# Altium footprint library PcbLib2.PcbLib: 11 footprints
Each footprint in its own frame and in the unit in brackets; x right, y up, seen from the top. Pads: shape width x height; smd on the part's side, far side on the other; paste and mask are expansions set on the pad; w line width, h text height; cw(c..) or ccw(c..) is an arc to the next point about the centre after c.
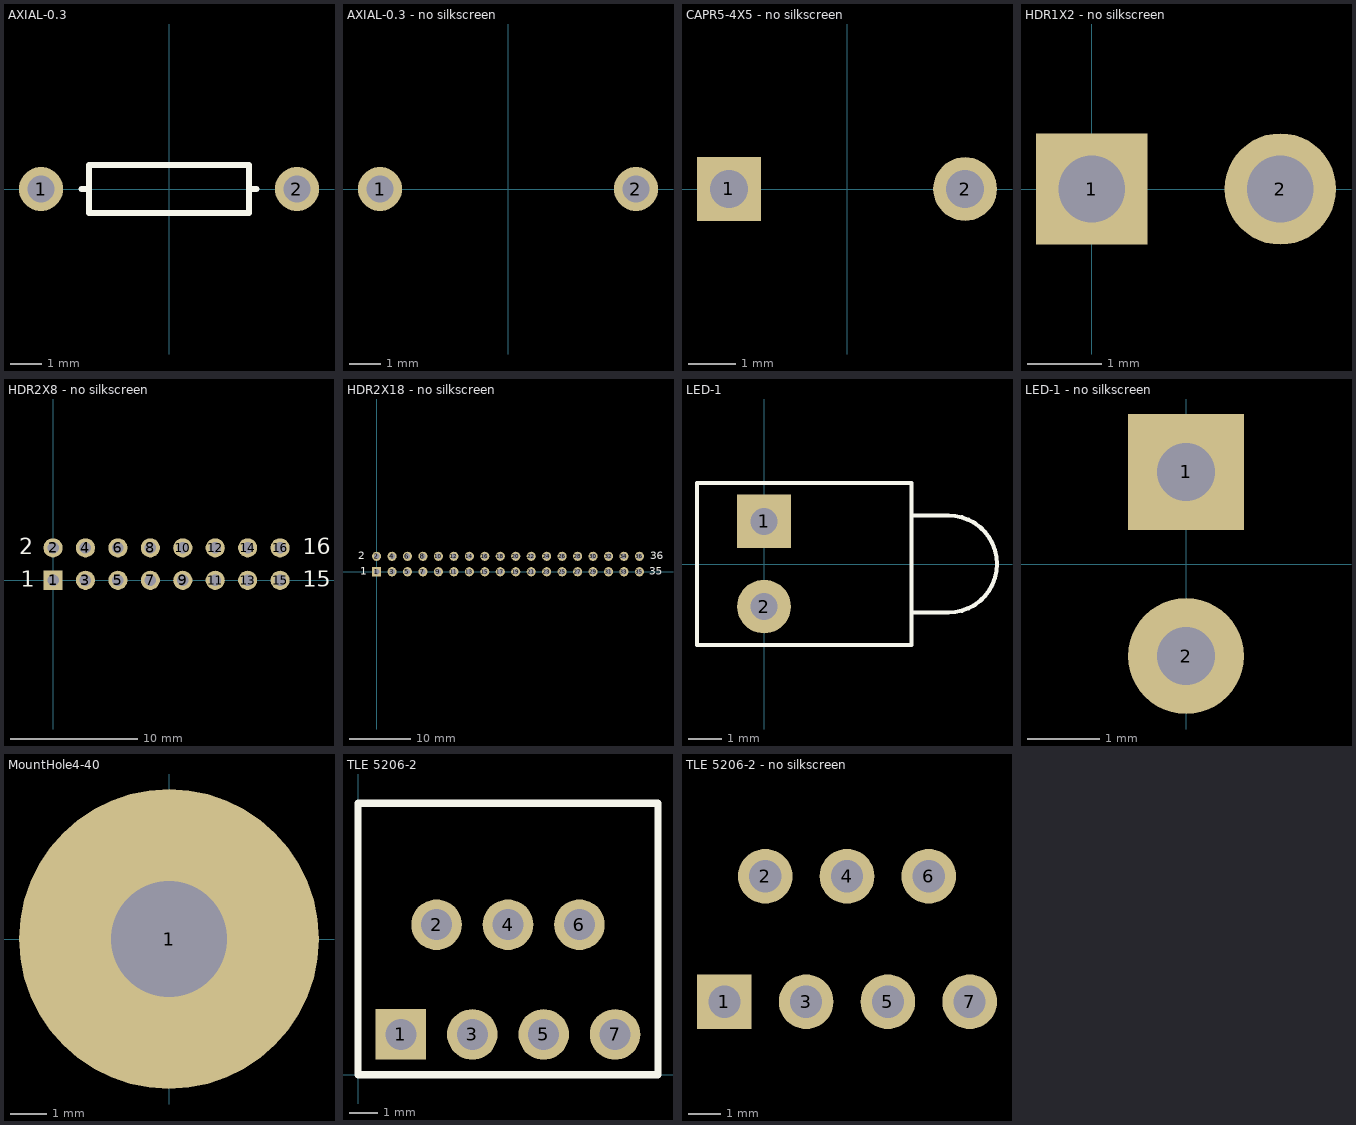
[diagram p0: the footprints below, top view; thin cyan lines are the x and y axes]

## AXIAL-0.3 [mm] "Axial Device, Thru-Hole; 2 Leads; 0.3 in Pin Spacing"
height 1.524
pads (2):
  round 1.4 hole 0.85: 1(-4.064,0) 2(4.064,0)
Top Overlay:
  lines w0.2: -2.769,0 -2.54,0 ; 2.769,0 2.54,0 ; 2.54,0 2.54,0.762 -2.54,0.762 -2.54,-0.762 2.54,-0.762 2.54,0

## AXIAL-0.3 - no silkscreen [mm] "Axial Device, Thru-Hole; 2 Leads; 0.3 in Pin Spacing"
height 1.524
pads (2):
  round 1.4 hole 0.85: 1(-4.064,0) 2(4.064,0)

## CAPR5-4X5 - no silkscreen [mm] "Capacitor; 2 Leads"
height 12
pads (2):
  rect 1.35x1.35 hole 0.8: 1(-2.5,0)
  round 1.35 hole 0.8: 2(2.5,0)

## HDR1X2 - no silkscreen [mm] "Connector; Header; 2 Position"
pads (2):
  rect 1.5x1.5 hole 0.9: 1(0,0)
  round 1.5 hole 0.9: 2(2.54,0)

## HDR2X8 - no silkscreen [mm] "Connector; Header; 8x2 Position"
pads (16):
  rect 1.5x1.5 hole 0.9: 1(0,0)
  round 1.5 hole 0.9: 2(0,2.54) 3(2.54,0) 4(2.54,2.54) 5(5.08,0) 6(5.08,2.54) 7(7.62,0) 8(7.62,2.54) 9(10.16,0) 10(10.16,2.54) 11(12.7,0) 12(12.7,2.54) 13(15.24,0) 14(15.24,2.54) 15(17.78,0) 16(17.78,2.54)
Top Overlay:
  text "16" at 19.558,2.032 h1.27
  text "15" at 19.558,-0.508 h1.27
  text "1" at -2.54,-0.508 h1.27
  text "2" at -2.667,2.032 h1.27

## HDR2X18 - no silkscreen [mm] "Connector; Header; 18x2 Position"
pads (36):
  rect 1.5x1.5 hole 0.9: 1(0,0)
  round 1.5 hole 0.9: 2(0,2.54) 3(2.54,0) 4(2.54,2.54) 5(5.08,0) 6(5.08,2.54) 7(7.62,0) 8(7.62,2.54) 9(10.16,0) 10(10.16,2.54) 11(12.7,0) 12(12.7,2.54) 13(15.24,0) 14(15.24,2.54) 15(17.78,0) 16(17.78,2.54) 17(20.32,0) 18(20.32,2.54) 19(22.86,0) 20(22.86,2.54) 21(25.4,0) 22(25.4,2.54) 23(27.94,0) 24(27.94,2.54) 25(30.48,0) 26(30.48,2.54) 27(33.02,0) 28(33.02,2.54) 29(35.56,0) 30(35.56,2.54) 31(38.1,0) 32(38.1,2.54) 33(40.64,0) 34(40.64,2.54) 35(43.18,0) 36(43.18,2.54)
Top Overlay:
  text "2" at -3.048,2.032 h1.27
  text "1" at -2.667,-0.508 h1.27
  text "35" at 44.831,-0.508 h1.27
  text "36" at 44.958,2.032 h1.27

## LED-1 [mm] "LED; 2 Leads"
pads (2):
  rect 1.6x1.6 hole 0.8: 1(0,1.27)
  round 1.6 hole 0.8: 2(0,-1.27)
Top Overlay:
  lines w0.127: 4.4,-1.45 5.5,-1.45 ccw(c5.5,0) 5.5,1.45 4.4,1.45 ; -2,-2.413 4.4,-2.413 4.4,2.413 -2,2.413 -2,-2.413

## LED-1 - no silkscreen [mm] "LED; 2 Leads"
pads (2):
  rect 1.6x1.6 hole 0.8: 1(0,1.27)
  round 1.6 hole 0.8: 2(0,-1.27)

## MountHole4-40 [mm]
pads (1):
  round 8.3 / inner round 3.7 / far side round 8.3 hole 3.2: 1(0,0)

## TLE 5206-2 [mm] "H-bridge bent legs"
pads (7):
  rect 1.8x1.8 hole 1.1: 1(1.524,1.434)
  round 1.8 hole 1.1: 2(2.794,5.334) 3(4.064,1.434) 4(5.334,5.334) 5(6.604,1.434) 6(7.874,5.334) 7(9.144,1.434)
Top Overlay:
  lines w0.254: 0,0 10.668,0 10.668,9.652 0,9.652 0,0

## TLE 5206-2 - no silkscreen [mm] "H-bridge bent legs"
pads (7):
  rect 1.7x1.7 hole 1: 1(1.524,4.5)
  round 1.7 hole 1: 2(2.794,8.4) 3(4.064,4.5) 4(5.334,8.4) 5(6.604,4.5) 6(7.874,8.4) 7(9.144,4.5)